# Altium integrated library ZMDI DC-DC Converter.IntLib: 18 symbols (part 1 of 2)
Pins are listed as number, name and electrical type; pins without a type are passive.

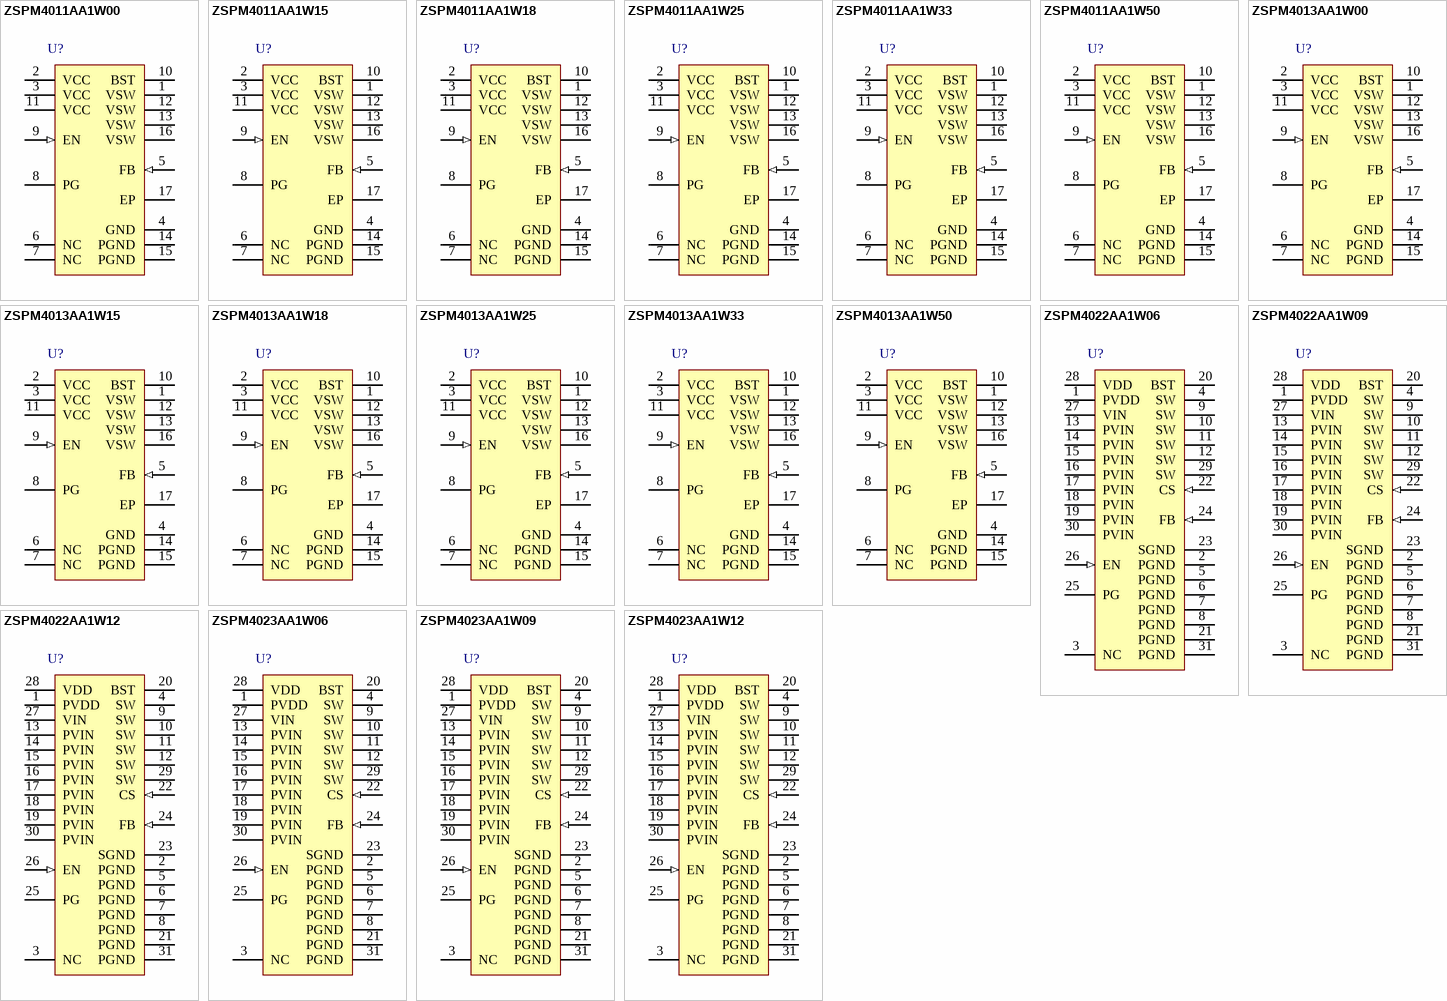
[diagram p0: symbols ZSPM4011AA1W00 to ZSPM4023AA1W12]

## ZSPM4011AA1W00
designator U?
High Efficiency 1 A Synchronous Buck Converter, 6 to 24 V Input, 0.9 to 5 V VDC, 1 A Iout, -40 to 125 degC, 16-Pin QFN, Reel, RoHS; Manufacturer: ZMDI; PartNumber: ZSPM4011AA1W00; Input Range (VDC): 6 to 24; Output (A): 1; Output (VDC): 0.9 to 5; DatasheetVersion: Rev. 1.03; PackageReference: QFN16; PackageDescription: 16-Pin Plastic Quad Flatpack, No Leads, 3 x 3 mm Body, 0.5 mm Pitch, 1.65 x 1.65 mm Exposed Pad; Supplier 1: Farnell; Supplier Part Number 1: 2115213; Supplier 2: Newark; Supplier Part Number 2: 05W5919; Supplier 3: Mouser; Supplier Part Number 3: 964-ZSPM4011AA1W00; Packing: Reel; RoHS: TRUE; Mounting Technology: Surface Mount; ComponentLink1Description: Manufacturer URL; ComponentLink1URL: http://www.zmdi.com/; ComponentLink2Description: Datasheet; ComponentLink2URL: http://zmdi.cdistore.com/datasheets/zmdi/ZSPM4011_Data_Sheet_rev_1_03.pdf; ComponentLink3Description: Package Specification; ComponentLink3URL: http://zmdi.cdistore.com/datasheets/zmdi/ZSPM4011_Data_Sheet_rev_1_03.pdf
footprint ZMDI-QFN16_N (QFN, 16-Leads, Body 3.1x3.1mm, Pitch 0.5mm, Thermal Pad 1.65x1.65mm, IPC Medium Density)
footprint ZMDI-QFN16_L (QFN, 16-Leads, Body 3.1x3.1mm, Pitch 0.5mm, Thermal Pad 1.65x1.65mm, IPC High Density)
footprint ZMDI-QFN16_M (QFN, 16-Leads, Body 3.1x3.1mm, Pitch 0.5mm, Thermal Pad 1.65x1.65mm, IPC Low Density)
pins: 1 VSW (power) "Connected to a 4.7uH (typical) inductor. Also connect to additional VSW pins 12, 13, and 16.", 2 VCC (power) "Input voltage. Also connect to additional VCC pins 3 and 11.", 3 VCC (power) "Input voltage. Also connect to additional VCC pins 2 and 11.", 4 GND (power) "Primary ground for the majority of the device except the low-side power FET.", 5 FB (in) "Regulator FB voltage. Connects to VOUT for fixed-mode and the output resistor divider for adjustable mode.", 6 NC "Not connected.", 7 NC "Not connected.", 8 PG (oc) "Open-drain output.", 9 EN (in), 10 BST "Bootstrap capacitor for the high-side FET gate driver. Connect a 22nF ceramic capacitor from BST pin to VSW pin.", 11 VCC (power) "Input voltage. Also connect to additional VCC pins 2 and 3.", 12 VSW (power) "Connected to 4.7uH (typical) inductor. Also connect to additional VSW pins 1, 13, and 16.", 13 VSW (power) "Connected to 4.7uH (typical) inductor. Also connect to additional VSW pins 1, 12, and 16.", 14 PGND (power) "GND supply for internal low-side FET/integrated diode. Also connect to additional PGND pin 15.", 15 PGND (power) "GND supply for internal low-side FET/integrated diode. Also connect to additional PGND pin 14.", 16 VSW (power) "Connected to 4.7uH (typical) inductor. Also connect to additional VSW pins 1, 12, and 13.", 17 EP

## ZSPM4011AA1W15
designator U?
High Efficiency 1 A Synchronous Buck Converter, 6 to 24 V Input, 1.5 V VDC, 1 A Iout, -40 to 125 degC, 16-Pin QFN, Reel, RoHS; Manufacturer: ZMDI; PartNumber: ZSPM4011AA1W15; Input Range (VDC): 6 to 24; Output (A): 1; Output (VDC): 1.5; DatasheetVersion: Rev. 1.03; PackageReference: QFN16; PackageDescription: 16-Pin Plastic Quad Flatpack, No Leads, 3 x 3 mm Body, 0.5 mm Pitch, 1.65 x 1.65 mm Exposed Pad; Supplier 1: Mouser; Supplier Part Number 1: 964-ZSPM4011AA1W15; Packing: Reel; RoHS: TRUE; Mounting Technology: Surface Mount; ComponentLink1Description: Manufacturer URL; ComponentLink1URL: http://www.zmdi.com/; ComponentLink2Description: Datasheet; ComponentLink2URL: http://zmdi.cdistore.com/datasheets/zmdi/ZSPM4011_Data_Sheet_rev_1_03.pdf; ComponentLink3Description: Package Specification; ComponentLink3URL: http://zmdi.cdistore.com/datasheets/zmdi/ZSPM4011_Data_Sheet_rev_1_03.pdf
footprint ZMDI-QFN16_N (QFN, 16-Leads, Body 3.1x3.1mm, Pitch 0.5mm, Thermal Pad 1.65x1.65mm, IPC Medium Density)
footprint ZMDI-QFN16_L (QFN, 16-Leads, Body 3.1x3.1mm, Pitch 0.5mm, Thermal Pad 1.65x1.65mm, IPC High Density)
footprint ZMDI-QFN16_M (QFN, 16-Leads, Body 3.1x3.1mm, Pitch 0.5mm, Thermal Pad 1.65x1.65mm, IPC Low Density)
pins: 1 VSW (power) "Connected to a 4.7uH (typical) inductor. Also connect to additional VSW pins 12, 13, and 16.", 2 VCC (power) "Input voltage. Also connect to additional VCC pins 3 and 11.", 3 VCC (power) "Input voltage. Also connect to additional VCC pins 2 and 11.", 4 GND (power) "Primary ground for the majority of the device except the low-side power FET.", 5 FB (in) "Regulator FB voltage. Connects to VOUT for fixed-mode and the output resistor divider for adjustable mode.", 6 NC "Not connected.", 7 NC "Not connected.", 8 PG (oc) "Open-drain output.", 9 EN (in), 10 BST "Bootstrap capacitor for the high-side FET gate driver. Connect a 22nF ceramic capacitor from BST pin to VSW pin.", 11 VCC (power) "Input voltage. Also connect to additional VCC pins 2 and 3.", 12 VSW (power) "Connected to 4.7uH (typical) inductor. Also connect to additional VSW pins 1, 13, and 16.", 13 VSW (power) "Connected to 4.7uH (typical) inductor. Also connect to additional VSW pins 1, 12, and 16.", 14 PGND (power) "GND supply for internal low-side FET/integrated diode. Also connect to additional PGND pin 15.", 15 PGND (power) "GND supply for internal low-side FET/integrated diode. Also connect to additional PGND pin 14.", 16 VSW (power) "Connected to 4.7uH (typical) inductor. Also connect to additional VSW pins 1, 12, and 13.", 17 EP

## ZSPM4011AA1W18
designator U?
High Efficiency 1 A Synchronous Buck Converter, 6 to 24 V Input, 1.8 V VDC, 1 A Iout, -40 to 125 degC, 16-Pin QFN, Reel, RoHS; Manufacturer: ZMDI; PartNumber: ZSPM4011AA1W18; Input Range (VDC): 6 to 24; Output (A): 1; Output (VDC): 1.8; DatasheetVersion: Rev. 1.03; PackageReference: QFN16; PackageDescription: 16-Pin Plastic Quad Flatpack, No Leads, 3 x 3 mm Body, 0.5 mm Pitch, 1.65 x 1.65 mm Exposed Pad; Supplier 1: Farnell; Supplier Part Number 1: 2115210; Supplier 2: Mouser; Supplier Part Number 2: 964-ZSPM4011AA1W18; Packing: Reel; RoHS: TRUE; Mounting Technology: Surface Mount; ComponentLink1Description: Manufacturer URL; ComponentLink1URL: http://www.zmdi.com/; ComponentLink2Description: Datasheet; ComponentLink2URL: http://zmdi.cdistore.com/datasheets/zmdi/ZSPM4011_Data_Sheet_rev_1_03.pdf; ComponentLink3Description: Package Specification; ComponentLink3URL: http://zmdi.cdistore.com/datasheets/zmdi/ZSPM4011_Data_Sheet_rev_1_03.pdf
footprint ZMDI-QFN16_N (QFN, 16-Leads, Body 3.1x3.1mm, Pitch 0.5mm, Thermal Pad 1.65x1.65mm, IPC Medium Density)
footprint ZMDI-QFN16_L (QFN, 16-Leads, Body 3.1x3.1mm, Pitch 0.5mm, Thermal Pad 1.65x1.65mm, IPC High Density)
footprint ZMDI-QFN16_M (QFN, 16-Leads, Body 3.1x3.1mm, Pitch 0.5mm, Thermal Pad 1.65x1.65mm, IPC Low Density)
pins: 1 VSW (power) "Connected to a 4.7uH (typical) inductor. Also connect to additional VSW pins 12, 13, and 16.", 2 VCC (power) "Input voltage. Also connect to additional VCC pins 3 and 11.", 3 VCC (power) "Input voltage. Also connect to additional VCC pins 2 and 11.", 4 GND (power) "Primary ground for the majority of the device except the low-side power FET.", 5 FB (in) "Regulator FB voltage. Connects to VOUT for fixed-mode and the output resistor divider for adjustable mode.", 6 NC "Not connected.", 7 NC "Not connected.", 8 PG (oc) "Open-drain output.", 9 EN (in), 10 BST "Bootstrap capacitor for the high-side FET gate driver. Connect a 22nF ceramic capacitor from BST pin to VSW pin.", 11 VCC (power) "Input voltage. Also connect to additional VCC pins 2 and 3.", 12 VSW (power) "Connected to 4.7uH (typical) inductor. Also connect to additional VSW pins 1, 13, and 16.", 13 VSW (power) "Connected to 4.7uH (typical) inductor. Also connect to additional VSW pins 1, 12, and 16.", 14 PGND (power) "GND supply for internal low-side FET/integrated diode. Also connect to additional PGND pin 15.", 15 PGND (power) "GND supply for internal low-side FET/integrated diode. Also connect to additional PGND pin 14.", 16 VSW (power) "Connected to 4.7uH (typical) inductor. Also connect to additional VSW pins 1, 12, and 13.", 17 EP

## ZSPM4011AA1W25
designator U?
High Efficiency 1 A Synchronous Buck Converter, 6 to 24 V Input, 2.5 V VDC, 1 A Iout, -40 to 125 degC,16-Pin QFN, Reel, RoHS; Manufacturer: ZMDI; PartNumber: ZSPM4011AA1W25; Input Range (VDC): 6 to 24; Output (A): 1; Output (VDC): 2.5; DatasheetVersion: Rev. 1.03; PackageReference: QFN16; PackageDescription: 16-Pin Plastic Quad Flatpack, No Leads, 3 x 3 mm Body, 0.5 mm Pitch, 1.65 x 1.65 mm Exposed Pad; Supplier 1: Mouser; Supplier Part Number 1: 964-ZSPM4011AA1W25; Packing: Reel; RoHS: TRUE; Mounting Technology: Surface Mount; ComponentLink1Description: Manufacturer URL; ComponentLink1URL: http://www.zmdi.com/; ComponentLink2Description: Datasheet; ComponentLink2URL: http://zmdi.cdistore.com/datasheets/zmdi/ZSPM4011_Data_Sheet_rev_1_03.pdf; ComponentLink3Description: Package Specification; ComponentLink3URL: http://zmdi.cdistore.com/datasheets/zmdi/ZSPM4011_Data_Sheet_rev_1_03.pdf
footprint ZMDI-QFN16_N (QFN, 16-Leads, Body 3.1x3.1mm, Pitch 0.5mm, Thermal Pad 1.65x1.65mm, IPC Medium Density)
footprint ZMDI-QFN16_L (QFN, 16-Leads, Body 3.1x3.1mm, Pitch 0.5mm, Thermal Pad 1.65x1.65mm, IPC High Density)
footprint ZMDI-QFN16_M (QFN, 16-Leads, Body 3.1x3.1mm, Pitch 0.5mm, Thermal Pad 1.65x1.65mm, IPC Low Density)
pins: 1 VSW (power) "Connected to a 4.7uH (typical) inductor. Also connect to additional VSW pins 12, 13, and 16.", 2 VCC (power) "Input voltage. Also connect to additional VCC pins 3 and 11.", 3 VCC (power) "Input voltage. Also connect to additional VCC pins 2 and 11.", 4 GND (power) "Primary ground for the majority of the device except the low-side power FET.", 5 FB (in) "Regulator FB voltage. Connects to VOUT for fixed-mode and the output resistor divider for adjustable mode.", 6 NC "Not connected.", 7 NC "Not connected.", 8 PG (oc) "Open-drain output.", 9 EN (in), 10 BST "Bootstrap capacitor for the high-side FET gate driver. Connect a 22nF ceramic capacitor from BST pin to VSW pin.", 11 VCC (power) "Input voltage. Also connect to additional VCC pins 2 and 3.", 12 VSW (power) "Connected to 4.7uH (typical) inductor. Also connect to additional VSW pins 1, 13, and 16.", 13 VSW (power) "Connected to 4.7uH (typical) inductor. Also connect to additional VSW pins 1, 12, and 16.", 14 PGND (power) "GND supply for internal low-side FET/integrated diode. Also connect to additional PGND pin 15.", 15 PGND (power) "GND supply for internal low-side FET/integrated diode. Also connect to additional PGND pin 14.", 16 VSW (power) "Connected to 4.7uH (typical) inductor. Also connect to additional VSW pins 1, 12, and 13.", 17 EP

## ZSPM4011AA1W33
designator U?
High Efficiency 1 A Synchronous Buck Converter, 6 to 24 V Input, 3.3 V VDC, 1 A Iout, -40 to 125 degC, 16-Pin QFN, Reel, RoHS; Manufacturer: ZMDI; PartNumber: ZSPM4011AA1W33; Input Range (VDC): 6 to 24; Output (A): 1; Output (VDC): 3.3; DatasheetVersion: Rev. 1.03; PackageReference: QFN16; PackageDescription: 16-Pin Plastic Quad Flatpack, No Leads, 3 x 3 mm Body, 0.5 mm Pitch, 1.65 x 1.65 mm Exposed Pad; Supplier 1: Farnell; Supplier Part Number 1: 2115211; Supplier 2: Mouser; Supplier Part Number 2: 964-ZSPM4011AA1W33; Packing: Reel; RoHS: TRUE; Mounting Technology: Surface Mount; ComponentLink1Description: Manufacturer URL; ComponentLink1URL: http://www.zmdi.com/; ComponentLink2Description: Datasheet; ComponentLink2URL: http://zmdi.cdistore.com/datasheets/zmdi/ZSPM4011_Data_Sheet_rev_1_03.pdf; ComponentLink3Description: Package Specification; ComponentLink3URL: http://zmdi.cdistore.com/datasheets/zmdi/ZSPM4011_Data_Sheet_rev_1_03.pdf
footprint ZMDI-QFN16_N (QFN, 16-Leads, Body 3.1x3.1mm, Pitch 0.5mm, Thermal Pad 1.65x1.65mm, IPC Medium Density)
footprint ZMDI-QFN16_L (QFN, 16-Leads, Body 3.1x3.1mm, Pitch 0.5mm, Thermal Pad 1.65x1.65mm, IPC High Density)
footprint ZMDI-QFN16_M (QFN, 16-Leads, Body 3.1x3.1mm, Pitch 0.5mm, Thermal Pad 1.65x1.65mm, IPC Low Density)
pins: 1 VSW (power) "Connected to a 4.7uH (typical) inductor. Also connect to additional VSW pins 12, 13, and 16.", 2 VCC (power) "Input voltage. Also connect to additional VCC pins 3 and 11.", 3 VCC (power) "Input voltage. Also connect to additional VCC pins 2 and 11.", 4 GND (power) "Primary ground for the majority of the device except the low-side power FET.", 5 FB (in) "Regulator FB voltage. Connects to VOUT for fixed-mode and the output resistor divider for adjustable mode.", 6 NC "Not connected.", 7 NC "Not connected.", 8 PG (oc) "Open-drain output.", 9 EN (in), 10 BST "Bootstrap capacitor for the high-side FET gate driver. Connect a 22nF ceramic capacitor from BST pin to VSW pin.", 11 VCC (power) "Input voltage. Also connect to additional VCC pins 2 and 3.", 12 VSW (power) "Connected to 4.7uH (typical) inductor. Also connect to additional VSW pins 1, 13, and 16.", 13 VSW (power) "Connected to 4.7uH (typical) inductor. Also connect to additional VSW pins 1, 12, and 16.", 14 PGND (power) "GND supply for internal low-side FET/integrated diode. Also connect to additional PGND pin 15.", 15 PGND (power) "GND supply for internal low-side FET/integrated diode. Also connect to additional PGND pin 14.", 16 VSW (power) "Connected to 4.7uH (typical) inductor. Also connect to additional VSW pins 1, 12, and 13.", 17 EP

## ZSPM4011AA1W50
designator U?
High Efficiency 1 A Synchronous Buck Converter, 6 to 24 V Input, 5 V VDC, 1 A Iout, -40 to 125 degC, 16-Pin QFN, Reel, RoHS; Manufacturer: ZMDI; PartNumber: ZSPM4011AA1W50; Input Range (VDC): 6 to 24; Output (A): 1; Output (VDC): 5; DatasheetVersion: Rev. 1.03; PackageReference: QFN16; PackageDescription: 16-Pin Plastic Quad Flatpack, No Leads, 3 x 3 mm Body, 0.5 mm Pitch, 1.65 x 1.65 mm Exposed Pad; Supplier 1: Farnell; Supplier Part Number 1: 2115212; Supplier 2: Mouser; Supplier Part Number 2: 964-ZSPM4011AA1W50; Packing: Reel; RoHS: TRUE; Mounting Technology: Surface Mount; ComponentLink1Description: Manufacturer URL; ComponentLink1URL: http://www.zmdi.com/; ComponentLink2Description: Datasheet; ComponentLink2URL: http://zmdi.cdistore.com/datasheets/zmdi/ZSPM4011_Data_Sheet_rev_1_03.pdf; ComponentLink3Description: Package Specification; ComponentLink3URL: http://zmdi.cdistore.com/datasheets/zmdi/ZSPM4011_Data_Sheet_rev_1_03.pdf
footprint ZMDI-QFN16_N (QFN, 16-Leads, Body 3.1x3.1mm, Pitch 0.5mm, Thermal Pad 1.65x1.65mm, IPC Medium Density)
footprint ZMDI-QFN16_L (QFN, 16-Leads, Body 3.1x3.1mm, Pitch 0.5mm, Thermal Pad 1.65x1.65mm, IPC High Density)
footprint ZMDI-QFN16_M (QFN, 16-Leads, Body 3.1x3.1mm, Pitch 0.5mm, Thermal Pad 1.65x1.65mm, IPC Low Density)
pins: 1 VSW (power) "Connected to a 4.7uH (typical) inductor. Also connect to additional VSW pins 12, 13, and 16.", 2 VCC (power) "Input voltage. Also connect to additional VCC pins 3 and 11.", 3 VCC (power) "Input voltage. Also connect to additional VCC pins 2 and 11.", 4 GND (power) "Primary ground for the majority of the device except the low-side power FET.", 5 FB (in) "Regulator FB voltage. Connects to VOUT for fixed-mode and the output resistor divider for adjustable mode.", 6 NC "Not connected.", 7 NC "Not connected.", 8 PG (oc) "Open-drain output.", 9 EN (in), 10 BST "Bootstrap capacitor for the high-side FET gate driver. Connect a 22nF ceramic capacitor from BST pin to VSW pin.", 11 VCC (power) "Input voltage. Also connect to additional VCC pins 2 and 3.", 12 VSW (power) "Connected to 4.7uH (typical) inductor. Also connect to additional VSW pins 1, 13, and 16.", 13 VSW (power) "Connected to 4.7uH (typical) inductor. Also connect to additional VSW pins 1, 12, and 16.", 14 PGND (power) "GND supply for internal low-side FET/integrated diode. Also connect to additional PGND pin 15.", 15 PGND (power) "GND supply for internal low-side FET/integrated diode. Also connect to additional PGND pin 14.", 16 VSW (power) "Connected to 4.7uH (typical) inductor. Also connect to additional VSW pins 1, 12, and 13.", 17 EP

## ZSPM4013AA1W00
designator U?
High Efficiency 3 A Synchronous Buck Converter, 6 to 18 V Input, 0.9 to 5 V VDC, 3 A Iout, -40 to 125 degC, 16-Pin QFN, Reel, RoHS; Manufacturer: ZMDI; PartNumber: ZSPM4013AA1W00; Input Range (VDC): 6 to 18; Output (A): 3; Output (VDC): 0.9 to 5; DatasheetVersion: Rev. 1.10; PackageReference: QFN16; PackageDescription: 16-Pin Plastic Quad Flatpack, No Leads, 3 x 3 mm Body, 0.5 mm Pitch, 1.65 x 1.65 mm Exposed Pad; Supplier 1: Farnell; Supplier Part Number 1: 2115223; Supplier 2: Newark; Supplier Part Number 2: 05W5929; Supplier 3: Mouser; Supplier Part Number 3: 964-ZSPM4013AA1W00; Packing: Reel; RoHS: TRUE; Mounting Technology: Surface Mount; ComponentLink1Description: Manufacturer URL; ComponentLink1URL: http://www.zmdi.com/; ComponentLink2Description: Datasheet; ComponentLink2URL: http://zmdi.cdistore.com/datasheets/zmdi/ZSPM4013_Data_Sheet_rev_1_10.pdf; ComponentLink3Description: Package Specification; ComponentLink3URL: http://zmdi.cdistore.com/datasheets/zmdi/ZSPM4011_Data_Sheet_rev_1_03.pdf
footprint ZMDI-QFN16_N (QFN, 16-Leads, Body 3.1x3.1mm, Pitch 0.5mm, Thermal Pad 1.65x1.65mm, IPC Medium Density)
footprint ZMDI-QFN16_L (QFN, 16-Leads, Body 3.1x3.1mm, Pitch 0.5mm, Thermal Pad 1.65x1.65mm, IPC High Density)
footprint ZMDI-QFN16_M (QFN, 16-Leads, Body 3.1x3.1mm, Pitch 0.5mm, Thermal Pad 1.65x1.65mm, IPC Low Density)
pins: 1 VSW (power) "Connected to a 4.7uH (typical) inductor. Also connect to additional VSW pins 12, 13, and 16.", 2 VCC (power) "Input voltage. Also connect to additional VCC pins 3 and 11.", 3 VCC (power) "Input voltage. Also connect to additional VCC pins 2 and 11.", 4 GND (power) "Primary ground for the majority of the device except the low-side power FET.", 5 FB (in) "Regulator FB voltage. Connects to VOUT for fixed-mode and the output resistor divider for adjustable mode.", 6 NC "Not connected.", 7 NC "Not connected.", 8 PG (oc) "Open-drain output.", 9 EN (in), 10 BST "Bootstrap capacitor for the high-side FET gate driver. Connect a 22nF ceramic capacitor from BST pin to VSW pin.", 11 VCC (power) "Input voltage. Also connect to additional VCC pins 2 and 3.", 12 VSW (power) "Connected to 4.7uH (typical) inductor. Also connect to additional VSW pins 1, 13, and 16.", 13 VSW (power) "Connected to 4.7uH (typical) inductor. Also connect to additional VSW pins 1, 12, and 16.", 14 PGND (power) "GND supply for internal low-side FET/integrated diode. Also connect to additional PGND pin 15.", 15 PGND (power) "GND supply for internal low-side FET/integrated diode. Also connect to additional PGND pin 14.", 16 VSW (power) "Connected to 4.7uH (typical) inductor. Also connect to additional VSW pins 1, 12, and 13.", 17 EP

## ZSPM4013AA1W15
designator U?
High Efficiency 3 A Synchronous Buck Converter, 6 to 18 V Input, 1.5 V VDC, 3 A Iout, -40 to 125 degC, 16-Pin QFN, Reel, RoHS; Manufacturer: ZMDI; PartNumber: ZSPM4013AA1W15; Input Range (VDC): 6 to 18; Output (A): 3; Output (VDC): 1.5; DatasheetVersion: Rev. 1.10; PackageReference: QFN16; PackageDescription: 16-Pin Plastic Quad Flatpack, No Leads, 3 x 3 mm Body, 0.5 mm Pitch, 1.65 x 1.65 mm Exposed Pad; Supplier 1: Mouser; Supplier Part Number 1: 964-ZSPM4013AA1W15; Packing: Reel; RoHS: TRUE; Mounting Technology: Surface Mount; ComponentLink1Description: Manufacturer URL; ComponentLink1URL: http://www.zmdi.com/; ComponentLink2Description: Datasheet; ComponentLink2URL: http://zmdi.cdistore.com/datasheets/zmdi/ZSPM4013_Data_Sheet_rev_1_10.pdf; ComponentLink3Description: Package Specification; ComponentLink3URL: http://zmdi.cdistore.com/datasheets/zmdi/ZSPM4011_Data_Sheet_rev_1_03.pdf
footprint ZMDI-QFN16_N (QFN, 16-Leads, Body 3.1x3.1mm, Pitch 0.5mm, Thermal Pad 1.65x1.65mm, IPC Medium Density)
footprint ZMDI-QFN16_L (QFN, 16-Leads, Body 3.1x3.1mm, Pitch 0.5mm, Thermal Pad 1.65x1.65mm, IPC High Density)
footprint ZMDI-QFN16_M (QFN, 16-Leads, Body 3.1x3.1mm, Pitch 0.5mm, Thermal Pad 1.65x1.65mm, IPC Low Density)
pins: 1 VSW (power) "Connected to a 4.7uH (typical) inductor. Also connect to additional VSW pins 12, 13, and 16.", 2 VCC (power) "Input voltage. Also connect to additional VCC pins 3 and 11.", 3 VCC (power) "Input voltage. Also connect to additional VCC pins 2 and 11.", 4 GND (power) "Primary ground for the majority of the device except the low-side power FET.", 5 FB (in) "Regulator FB voltage. Connects to VOUT for fixed-mode and the output resistor divider for adjustable mode.", 6 NC "Not connected.", 7 NC "Not connected.", 8 PG (oc) "Open-drain output.", 9 EN (in), 10 BST "Bootstrap capacitor for the high-side FET gate driver. Connect a 22nF ceramic capacitor from BST pin to VSW pin.", 11 VCC (power) "Input voltage. Also connect to additional VCC pins 2 and 3.", 12 VSW (power) "Connected to 4.7uH (typical) inductor. Also connect to additional VSW pins 1, 13, and 16.", 13 VSW (power) "Connected to 4.7uH (typical) inductor. Also connect to additional VSW pins 1, 12, and 16.", 14 PGND (power) "GND supply for internal low-side FET/integrated diode. Also connect to additional PGND pin 15.", 15 PGND (power) "GND supply for internal low-side FET/integrated diode. Also connect to additional PGND pin 14.", 16 VSW (power) "Connected to 4.7uH (typical) inductor. Also connect to additional VSW pins 1, 12, and 13.", 17 EP

## ZSPM4013AA1W18
designator U?
High Efficiency 3 A Synchronous Buck Converter, 6 to 18 V Input, 1.8 V VDC, 3 A Iout, -40 to 125 degC, 16-Pin QFN, Reel, RoHS; Manufacturer: ZMDI; PartNumber: ZSPM4013AA1W18; Input Range (VDC): 6 to 18; Output (A): 3; Output (VDC): 1.8; DatasheetVersion: Rev. 1.10; PackageReference: QFN16; PackageDescription: 16-Pin Plastic Quad Flatpack, No Leads, 3 x 3 mm Body, 0.5 mm Pitch, 1.65 x 1.65 mm Exposed Pad; Supplier 1: Farnell; Supplier Part Number 1: 2115218; Supplier 2: Newark; Supplier Part Number 2: 05W5930; Supplier 3: Mouser; Supplier Part Number 3: 964-ZSPM4013AA1W18; Packing: Reel; RoHS: TRUE; Mounting Technology: Surface Mount; ComponentLink1Description: Manufacturer URL; ComponentLink1URL: http://www.zmdi.com/; ComponentLink2Description: Datasheet; ComponentLink2URL: http://zmdi.cdistore.com/datasheets/zmdi/ZSPM4013_Data_Sheet_rev_1_10.pdf; ComponentLink3Description: Package Specification; ComponentLink3URL: http://zmdi.cdistore.com/datasheets/zmdi/ZSPM4011_Data_Sheet_rev_1_03.pdf
footprint ZMDI-QFN16_N (QFN, 16-Leads, Body 3.1x3.1mm, Pitch 0.5mm, Thermal Pad 1.65x1.65mm, IPC Medium Density)
footprint ZMDI-QFN16_L (QFN, 16-Leads, Body 3.1x3.1mm, Pitch 0.5mm, Thermal Pad 1.65x1.65mm, IPC High Density)
footprint ZMDI-QFN16_M (QFN, 16-Leads, Body 3.1x3.1mm, Pitch 0.5mm, Thermal Pad 1.65x1.65mm, IPC Low Density)
pins: 1 VSW (power) "Connected to a 4.7uH (typical) inductor. Also connect to additional VSW pins 12, 13, and 16.", 2 VCC (power) "Input voltage. Also connect to additional VCC pins 3 and 11.", 3 VCC (power) "Input voltage. Also connect to additional VCC pins 2 and 11.", 4 GND (power) "Primary ground for the majority of the device except the low-side power FET.", 5 FB (in) "Regulator FB voltage. Connects to VOUT for fixed-mode and the output resistor divider for adjustable mode.", 6 NC "Not connected.", 7 NC "Not connected.", 8 PG (oc) "Open-drain output.", 9 EN (in), 10 BST "Bootstrap capacitor for the high-side FET gate driver. Connect a 22nF ceramic capacitor from BST pin to VSW pin.", 11 VCC (power) "Input voltage. Also connect to additional VCC pins 2 and 3.", 12 VSW (power) "Connected to 4.7uH (typical) inductor. Also connect to additional VSW pins 1, 13, and 16.", 13 VSW (power) "Connected to 4.7uH (typical) inductor. Also connect to additional VSW pins 1, 12, and 16.", 14 PGND (power) "GND supply for internal low-side FET/integrated diode. Also connect to additional PGND pin 15.", 15 PGND (power) "GND supply for internal low-side FET/integrated diode. Also connect to additional PGND pin 14.", 16 VSW (power) "Connected to 4.7uH (typical) inductor. Also connect to additional VSW pins 1, 12, and 13.", 17 EP

## ZSPM4013AA1W25
designator U?
High Efficiency 3 A Synchronous Buck Converter, 6 to 18 V Input, 2.5 V VDC, 3 A Iout, -40 to 125 degC, 16-Pin QFN, Reel, RoHS; Manufacturer: ZMDI; PartNumber: ZSPM4013AA1W25; Input Range (VDC): 6 to 18; Output (A): 3; Output (VDC): 2.5; DatasheetVersion: Rev. 1.10; PackageReference: QFN16; PackageDescription: 16-Pin Plastic Quad Flatpack, No Leads, 3 x 3 mm Body, 0.5 mm Pitch, 1.65 x 1.65 mm Exposed Pad; Supplier 1: Mouser; Supplier Part Number 1: 964-ZSPM4013AA1W25; Packing: Reel; RoHS: TRUE; Mounting Technology: Surface Mount; ComponentLink1Description: Manufacturer URL; ComponentLink1URL: http://www.zmdi.com/; ComponentLink2Description: Datasheet; ComponentLink2URL: http://zmdi.cdistore.com/datasheets/zmdi/ZSPM4013_Data_Sheet_rev_1_10.pdf; ComponentLink3Description: Package Specification; ComponentLink3URL: http://zmdi.cdistore.com/datasheets/zmdi/ZSPM4011_Data_Sheet_rev_1_03.pdf
footprint ZMDI-QFN16_N (QFN, 16-Leads, Body 3.1x3.1mm, Pitch 0.5mm, Thermal Pad 1.65x1.65mm, IPC Medium Density)
footprint ZMDI-QFN16_L (QFN, 16-Leads, Body 3.1x3.1mm, Pitch 0.5mm, Thermal Pad 1.65x1.65mm, IPC High Density)
footprint ZMDI-QFN16_M (QFN, 16-Leads, Body 3.1x3.1mm, Pitch 0.5mm, Thermal Pad 1.65x1.65mm, IPC Low Density)
pins: 1 VSW (power) "Connected to a 4.7uH (typical) inductor. Also connect to additional VSW pins 12, 13, and 16.", 2 VCC (power) "Input voltage. Also connect to additional VCC pins 3 and 11.", 3 VCC (power) "Input voltage. Also connect to additional VCC pins 2 and 11.", 4 GND (power) "Primary ground for the majority of the device except the low-side power FET.", 5 FB (in) "Regulator FB voltage. Connects to VOUT for fixed-mode and the output resistor divider for adjustable mode.", 6 NC "Not connected.", 7 NC "Not connected.", 8 PG (oc) "Open-drain output.", 9 EN (in), 10 BST "Bootstrap capacitor for the high-side FET gate driver. Connect a 22nF ceramic capacitor from BST pin to VSW pin.", 11 VCC (power) "Input voltage. Also connect to additional VCC pins 2 and 3.", 12 VSW (power) "Connected to 4.7uH (typical) inductor. Also connect to additional VSW pins 1, 13, and 16.", 13 VSW (power) "Connected to 4.7uH (typical) inductor. Also connect to additional VSW pins 1, 12, and 16.", 14 PGND (power) "GND supply for internal low-side FET/integrated diode. Also connect to additional PGND pin 15.", 15 PGND (power) "GND supply for internal low-side FET/integrated diode. Also connect to additional PGND pin 14.", 16 VSW (power) "Connected to 4.7uH (typical) inductor. Also connect to additional VSW pins 1, 12, and 13.", 17 EP

## ZSPM4013AA1W33
designator U?
High Efficiency 3 A Synchronous Buck Converter, 6 to 18 V Input, 3.3 V VDC, 3 A Iout, -40 to 125 degC, 16-Pin QFN, Reel, RoHS; Manufacturer: ZMDI; PartNumber: ZSPM4013AA1W33; Input Range (VDC): 6 to 18; Output (A): 3; Output (VDC): 3.3; DatasheetVersion: Rev. 1.10; PackageReference: QFN16; PackageDescription: 16-Pin Plastic Quad Flatpack, No Leads, 3 x 3 mm Body, 0.5 mm Pitch, 1.65 x 1.65 mm Exposed Pad; Supplier 1: Farnell; Supplier Part Number 1: 2115221; Supplier 2: Newark; Supplier Part Number 2: 05W5931; Supplier 3: Mouser; Supplier Part Number 3: 964-ZSPM4013AA1W33; Packing: Reel; RoHS: TRUE; Mounting Technology: Surface Mount; ComponentLink1Description: Manufacturer URL; ComponentLink1URL: http://www.zmdi.com/; ComponentLink2Description: Datasheet; ComponentLink2URL: http://zmdi.cdistore.com/datasheets/zmdi/ZSPM4013_Data_Sheet_rev_1_10.pdf; ComponentLink3Description: Package Specification; ComponentLink3URL: http://zmdi.cdistore.com/datasheets/zmdi/ZSPM4011_Data_Sheet_rev_1_03.pdf
footprint ZMDI-QFN16_N (QFN, 16-Leads, Body 3.1x3.1mm, Pitch 0.5mm, Thermal Pad 1.65x1.65mm, IPC Medium Density)
footprint ZMDI-QFN16_L (QFN, 16-Leads, Body 3.1x3.1mm, Pitch 0.5mm, Thermal Pad 1.65x1.65mm, IPC High Density)
footprint ZMDI-QFN16_M (QFN, 16-Leads, Body 3.1x3.1mm, Pitch 0.5mm, Thermal Pad 1.65x1.65mm, IPC Low Density)
pins: 1 VSW (power) "Connected to a 4.7uH (typical) inductor. Also connect to additional VSW pins 12, 13, and 16.", 2 VCC (power) "Input voltage. Also connect to additional VCC pins 3 and 11.", 3 VCC (power) "Input voltage. Also connect to additional VCC pins 2 and 11.", 4 GND (power) "Primary ground for the majority of the device except the low-side power FET.", 5 FB (in) "Regulator FB voltage. Connects to VOUT for fixed-mode and the output resistor divider for adjustable mode.", 6 NC "Not connected.", 7 NC "Not connected.", 8 PG (oc) "Open-drain output.", 9 EN (in), 10 BST "Bootstrap capacitor for the high-side FET gate driver. Connect a 22nF ceramic capacitor from BST pin to VSW pin.", 11 VCC (power) "Input voltage. Also connect to additional VCC pins 2 and 3.", 12 VSW (power) "Connected to 4.7uH (typical) inductor. Also connect to additional VSW pins 1, 13, and 16.", 13 VSW (power) "Connected to 4.7uH (typical) inductor. Also connect to additional VSW pins 1, 12, and 16.", 14 PGND (power) "GND supply for internal low-side FET/integrated diode. Also connect to additional PGND pin 15.", 15 PGND (power) "GND supply for internal low-side FET/integrated diode. Also connect to additional PGND pin 14.", 16 VSW (power) "Connected to 4.7uH (typical) inductor. Also connect to additional VSW pins 1, 12, and 13.", 17 EP

## ZSPM4013AA1W50
designator U?
High Efficiency 3 A Synchronous Buck Converter, 6 to 18 V Input, 5 V VDC, 3 A Iout, -40 to 125 degC, 16-Pin QFN, Reel, RoHS; Manufacturer: ZMDI; PartNumber: ZSPM4013AA1W50; Input Range (VDC): 6 to 18; Output (A): 3; Output (VDC): 5; DatasheetVersion: Rev. 1.10; PackageReference: QFN16; PackageDescription: 16-Pin Plastic Quad Flatpack, No Leads, 3 x 3 mm Body, 0.5 mm Pitch, 1.65 x 1.65 mm Exposed Pad; Supplier 1: Farnell; Supplier Part Number 1: 2115222; Supplier 2: Newark; Supplier Part Number 2: 05W5932; Supplier 3: Mouser; Supplier Part Number 3: 964-ZSPM4013AA1W50; Packing: Reel; RoHS: TRUE; Mounting Technology: Surface Mount; ComponentLink1Description: Manufacturer URL; ComponentLink1URL: http://www.zmdi.com/; ComponentLink2Description: Datasheet; ComponentLink2URL: http://zmdi.cdistore.com/datasheets/zmdi/ZSPM4013_Data_Sheet_rev_1_10.pdf; ComponentLink3Description: Package Specification; ComponentLink3URL: http://zmdi.cdistore.com/datasheets/zmdi/ZSPM4011_Data_Sheet_rev_1_03.pdf
footprint ZMDI-QFN16_N (QFN, 16-Leads, Body 3.1x3.1mm, Pitch 0.5mm, Thermal Pad 1.65x1.65mm, IPC Medium Density)
footprint ZMDI-QFN16_L (QFN, 16-Leads, Body 3.1x3.1mm, Pitch 0.5mm, Thermal Pad 1.65x1.65mm, IPC High Density)
footprint ZMDI-QFN16_M (QFN, 16-Leads, Body 3.1x3.1mm, Pitch 0.5mm, Thermal Pad 1.65x1.65mm, IPC Low Density)
pins: 1 VSW (power) "Connected to a 4.7uH (typical) inductor. Also connect to additional VSW pins 12, 13, and 16.", 2 VCC (power) "Input voltage. Also connect to additional VCC pins 3 and 11.", 3 VCC (power) "Input voltage. Also connect to additional VCC pins 2 and 11.", 4 GND (power) "Primary ground for the majority of the device except the low-side power FET.", 5 FB (in) "Regulator FB voltage. Connects to VOUT for fixed-mode and the output resistor divider for adjustable mode.", 6 NC "Not connected.", 7 NC "Not connected.", 8 PG (oc) "Open-drain output.", 9 EN (in), 10 BST "Bootstrap capacitor for the high-side FET gate driver. Connect a 22nF ceramic capacitor from BST pin to VSW pin.", 11 VCC (power) "Input voltage. Also connect to additional VCC pins 2 and 3.", 12 VSW (power) "Connected to 4.7uH (typical) inductor. Also connect to additional VSW pins 1, 13, and 16.", 13 VSW (power) "Connected to 4.7uH (typical) inductor. Also connect to additional VSW pins 1, 12, and 16.", 14 PGND (power) "GND supply for internal low-side FET/integrated diode. Also connect to additional PGND pin 15.", 15 PGND (power) "GND supply for internal low-side FET/integrated diode. Also connect to additional PGND pin 14.", 16 VSW (power) "Connected to 4.7uH (typical) inductor. Also connect to additional VSW pins 1, 12, and 13.", 17 EP

## ZSPM4022AA1W06
designator U?
12 V / 6 A Synchronous DC / DC Buck Regulator, 4.5 to 19 V Input, 0.8 to 5.5 V VDC, 6 A Iout, -40 to 125 degC, 28-Pin QFN, Reel, RoHS; Manufacturer: ZMDI; PartNumber: ZSPM4022AA1W06; Output (A): 6; DatasheetVersion: Rev. 1.00; PackageReference: QFN28; PackageDescription: 28-Pin Plastic Quad Flatpack, No Lead, 5 x 6 mm Body, 0.65 mm Pitch; Supplier 1: Mouser; Supplier Part Number 1: 964-ZSPM4022-06; Input Range (VDC): 4.5 to 19; Output (VDC): 0.8 to 5.5; Packing: Reel; RoHS: TRUE; Mounting Technology: Surface Mount; ComponentLink1Description: Manufacturer URL; ComponentLink1URL: http://www.zmdi.com/; ComponentLink2Description: Datasheet; ComponentLink2URL: http://www.zmdi.com/sites/default/files/ZSPM4022-06_Data_Sheet_Rev1_00_2013-08-29_0.pdf; ComponentLink3Description: Package Specification; ComponentLink3URL: http://www.zmdi.com/sites/default/files/ZSPM4022-06_Data_Sheet_Rev1_00_2013-08-29_0.pdf
footprint ZMDI-QFN28_V (QFN, 28-Leads, Body 5x6mm, Pitch 0.65mm)
pins: 1 PVDD (power), 2 PGND (power), 3 NC "No connection", 4 SW (power) "Switch node output. This is the internal connection for the high-side MOSFET source and low-side MOSFET drain. Due to the high-speed switching on this pin, the SW pin should be routed away from sensitive nodes.", 5 PGND (power), 6 PGND (power), 7 PGND (power), 8 PGND (power), 9 SW (power) "Switch node output. This is the internal connection for the high-side MOSFET source and low-side MOSFET drain. Due to the high-speed switching on this pin, the SW pin should be routed away from sensitive nodes.", 10 SW (power) "Switch node output. This is the internal connection for the high-side MOSFET source and low-side MOSFET drain. Due to the high-speed switching on this pin, the SW pin should be routed away from sensitive nodes.", 11 SW (power) "Switch node output. This is the internal connection for the high-side MOSFET source and low-side MOSFET drain. Due to the high-speed switching on this pin, the SW pin should be routed away from sensitive nodes.", 12 SW (power) "Switch node output. This is the internal connection for the high-side MOSFET source and low-side MOSFET drain. Due to the high-speed switching on this pin, the SW pin should be routed away from sensitive nodes.", 13 PVIN (power) "High-side N-channel internal MOSFET drain connection input. The PVIN operating voltage range is from 4.5V to 28V. Input capacitors between the PVIN pins and the power ground (PGND) are required, and these connections must be (See Datasheet)", 14 PVIN (power) "High-side N-channel internal MOSFET drain connection input. The PVIN operating voltage range is from 4.5V to 28V. Input capacitors between the PVIN pins and the power ground (PGND) are required, and these connections must be (See Datasheet)", 15 PVIN (power) "High-side N-channel internal MOSFET drain connection input. The PVIN operating voltage range is from 4.5V to 28V. Input capacitors between the PVIN pins and the power ground (PGND) are required, and these connections must be (See Datasheet)", 16 PVIN (power) "High-side N-channel internal MOSFET drain connection input. The PVIN operating voltage range is from 4.5V to 28V. Input capacitors between the PVIN pins and the power ground (PGND) are required, and these connections must be (See Datasheet)", 17 PVIN (power) "High-side N-channel internal MOSFET drain connection input. The PVIN operating voltage range is from 4.5V to 28V. Input capacitors between the PVIN pins and the power ground (PGND) are required, and these connections must be (See Datasheet)", 18 PVIN (power) "High-side N-channel internal MOSFET drain connection input. The PVIN operating voltage range is from 4.5V to 28V. Input capacitors between the PVIN pins and the power ground (PGND) are required, and these connections must be (See Datasheet)", 19 PVIN (power) "High-side N-channel internal MOSFET drain connection input. The PVIN operating voltage range is from 4.5V to 28V. Input capacitors between the PVIN pins and the power ground (PGND) are required, and these connections must be (See Datasheet)", 20 BST "Boost output. This is the bootstrapped voltage to the high-side N-channel MOSFET driver. A Schottky diode is connected between the PVDD pin and the BST pin. A boost capacitor of 0.1uF is connected between the BST pin and the (See Datasheet)", 21 PGND (power), 22 CS (in), 23 SGND (power) "Signal ground. SGND must be connected directly to the ground planes. Do not route the SGND pin to the PGND pad on the top layer (see section 5 for details).", 24 FB (in) "Feedback input. This is the input to the transconductance amplifier of the control loop. The FB pin is regulated to 0.8V. A resistor divider connecting the feedback to the output is used to adjust the desired output voltage.", 25 PG (oc) "Power good output (open drain). The PG pin is externally tied to VDD through a 10kohm pull-up resistor. A high output is asserted when VOUT >  92% of nominal.", 26 EN (in), 27 VIN (power) "Power supply voltage input. This pin requires a bypass capacitor to PGND.", 28 VDD (power), 29 SW (power) "Switch node output. This is the internal connection for the high-side MOSFET source and low-side MOSFET drain. Due to the high-speed switching on this pin, the SW pin should be routed away from sensitive nodes.", 30 PVIN (power) "High-side N-channel internal MOSFET drain connection input. The PVIN operating voltage range is from 4.5V to 28V. Input capacitors between the PVIN pins and the power ground (PGND) are required, and these connections must be (See Datasheet)", 31 PGND (power)

## ZSPM4022AA1W09
designator U?
12 V / 9 A Synchronous DC / DC Buck Regulator, 4.5 to 19 V Input, 0.8 to 5.5 V VDC, 9 A Iout, -40 to 125 degC, 28-Pin QFN, Reel, RoHS; Manufacturer: ZMDI; PartNumber: ZSPM4022AA1W09; Output (A): 9; DatasheetVersion: Rev. 1.00; PackageReference: QFN28; PackageDescription: 28-Pin Plastic Quad Flatpack, No Lead, 5 x 6 mm Body, 0.65 mm Pitch; Supplier 1: Mouser; Supplier Part Number 1: 964-ZSPM4022-09; Input Range (VDC): 4.5 to 19; Output (VDC): 0.8 to 5.5; Packing: Reel; RoHS: TRUE; Mounting Technology: Surface Mount; ComponentLink1Description: Manufacturer URL; ComponentLink1URL: http://www.zmdi.com/; ComponentLink2Description: Datasheet; ComponentLink2URL: http://www.zmdi.com/sites/default/files/ZSPM4022-09_Data_Sheet_Rev1_00_2013-09-19_0.pdf; ComponentLink3Description: Package Specification; ComponentLink3URL: http://www.zmdi.com/sites/default/files/ZSPM4022-06_Data_Sheet_Rev1_00_2013-08-29_0.pdf
footprint ZMDI-QFN28_V (QFN, 28-Leads, Body 5x6mm, Pitch 0.65mm)
pins: 1 PVDD (power), 2 PGND (power), 3 NC "No connection", 4 SW (power) "Switch node output. This is the internal connection for the high-side MOSFET source and low-side MOSFET drain. Due to the high-speed switching on this pin, the SW pin should be routed away from sensitive nodes.", 5 PGND (power), 6 PGND (power), 7 PGND (power), 8 PGND (power), 9 SW (power) "Switch node output. This is the internal connection for the high-side MOSFET source and low-side MOSFET drain. Due to the high-speed switching on this pin, the SW pin should be routed away from sensitive nodes.", 10 SW (power) "Switch node output. This is the internal connection for the high-side MOSFET source and low-side MOSFET drain. Due to the high-speed switching on this pin, the SW pin should be routed away from sensitive nodes.", 11 SW (power) "Switch node output. This is the internal connection for the high-side MOSFET source and low-side MOSFET drain. Due to the high-speed switching on this pin, the SW pin should be routed away from sensitive nodes.", 12 SW (power) "Switch node output. This is the internal connection for the high-side MOSFET source and low-side MOSFET drain. Due to the high-speed switching on this pin, the SW pin should be routed away from sensitive nodes.", 13 PVIN (power) "High-side N-channel internal MOSFET drain connection input. The PVIN operating voltage range is from 4.5V to 28V. Input capacitors between the PVIN pins and the power ground (PGND) are required, and these connections must be (See Datasheet)", 14 PVIN (power) "High-side N-channel internal MOSFET drain connection input. The PVIN operating voltage range is from 4.5V to 28V. Input capacitors between the PVIN pins and the power ground (PGND) are required, and these connections must be (See Datasheet)", 15 PVIN (power) "High-side N-channel internal MOSFET drain connection input. The PVIN operating voltage range is from 4.5V to 28V. Input capacitors between the PVIN pins and the power ground (PGND) are required, and these connections must be (See Datasheet)", 16 PVIN (power) "High-side N-channel internal MOSFET drain connection input. The PVIN operating voltage range is from 4.5V to 28V. Input capacitors between the PVIN pins and the power ground (PGND) are required, and these connections must be (See Datasheet)", 17 PVIN (power) "High-side N-channel internal MOSFET drain connection input. The PVIN operating voltage range is from 4.5V to 28V. Input capacitors between the PVIN pins and the power ground (PGND) are required, and these connections must be (See Datasheet)", 18 PVIN (power) "High-side N-channel internal MOSFET drain connection input. The PVIN operating voltage range is from 4.5V to 28V. Input capacitors between the PVIN pins and the power ground (PGND) are required, and these connections must be (See Datasheet)", 19 PVIN (power) "High-side N-channel internal MOSFET drain connection input. The PVIN operating voltage range is from 4.5V to 28V. Input capacitors between the PVIN pins and the power ground (PGND) are required, and these connections must be (See Datasheet)", 20 BST "Boost output. This is the bootstrapped voltage to the high-side N-channel MOSFET driver. A Schottky diode is connected between the PVDD pin and the BST pin. A boost capacitor of 0.1uF is connected between the BST pin and the (See Datasheet)", 21 PGND (power), 22 CS (in), 23 SGND (power) "Signal ground. SGND must be connected directly to the ground planes. Do not route the SGND pin to the PGND pad on the top layer (see section 5 for details).", 24 FB (in) "Feedback input. This is the input to the transconductance amplifier of the control loop. The FB pin is regulated to 0.8V. A resistor divider connecting the feedback to the output is used to adjust the desired output voltage.", 25 PG (oc) "Power good output (open drain). The PG pin is externally tied to VDD through a 10kohm pull-up resistor. A high output is asserted when VOUT >  92% of nominal.", 26 EN (in), 27 VIN (power) "Power supply voltage input. This pin requires a bypass capacitor to PGND.", 28 VDD (power), 29 SW (power) "Switch node output. This is the internal connection for the high-side MOSFET source and low-side MOSFET drain. Due to the high-speed switching on this pin, the SW pin should be routed away from sensitive nodes.", 30 PVIN (power) "High-side N-channel internal MOSFET drain connection input. The PVIN operating voltage range is from 4.5V to 28V. Input capacitors between the PVIN pins and the power ground (PGND) are required, and these connections must be (See Datasheet)", 31 PGND (power)

## ZSPM4022AA1W12
designator U?
12 V / 12 A Synchronous DC / DC Buck Regulator, 4.5 to 19 V Input, 0.8 to 5.5 V VDC, 12 A Iout, -40 to 125 degC, 28-Pin QFN, Reel, RoHS; Manufacturer: ZMDI; PartNumber: ZSPM4022AA1W12; Output (A): 12; DatasheetVersion: Rev. 1.00; PackageReference: QFN28; PackageDescription: 28-Pin Plastic Quad Flatpack, No Lead, 5 x 6 mm Body, 0.65 mm Pitch; Supplier 1: Mouser; Supplier Part Number 1: 964-ZSPM4022-12; Input Range (VDC): 4.5 to 19; Output (VDC): 0.8 to 5.5; Packing: Reel; RoHS: TRUE; Mounting Technology: Surface Mount; ComponentLink1Description: Manufacturer URL; ComponentLink1URL: http://www.zmdi.com/; ComponentLink2Description: Datasheet; ComponentLink2URL: http://www.zmdi.com/sites/default/files/ZSPM4022-12_Data_Sheet_Rev1_00_2013-09-17_0.pdf; ComponentLink3Description: Package Specification; ComponentLink3URL: http://www.zmdi.com/sites/default/files/ZSPM4022-06_Data_Sheet_Rev1_00_2013-08-29_0.pdf
footprint ZMDI-QFN28_V (QFN, 28-Leads, Body 5x6mm, Pitch 0.65mm)
pins: 1 PVDD (power), 2 PGND (power), 3 NC "No connection", 4 SW (power) "Switch node output. This is the internal connection for the high-side MOSFET source and low-side MOSFET drain. Due to the high-speed switching on this pin, the SW pin should be routed away from sensitive nodes.", 5 PGND (power), 6 PGND (power), 7 PGND (power), 8 PGND (power), 9 SW (power) "Switch node output. This is the internal connection for the high-side MOSFET source and low-side MOSFET drain. Due to the high-speed switching on this pin, the SW pin should be routed away from sensitive nodes.", 10 SW (power) "Switch node output. This is the internal connection for the high-side MOSFET source and low-side MOSFET drain. Due to the high-speed switching on this pin, the SW pin should be routed away from sensitive nodes.", 11 SW (power) "Switch node output. This is the internal connection for the high-side MOSFET source and low-side MOSFET drain. Due to the high-speed switching on this pin, the SW pin should be routed away from sensitive nodes.", 12 SW (power) "Switch node output. This is the internal connection for the high-side MOSFET source and low-side MOSFET drain. Due to the high-speed switching on this pin, the SW pin should be routed away from sensitive nodes.", 13 PVIN (power) "High-side N-channel internal MOSFET drain connection input. The PVIN operating voltage range is from 4.5V to 28V. Input capacitors between the PVIN pins and the power ground (PGND) are required, and these connections must be (See Datasheet)", 14 PVIN (power) "High-side N-channel internal MOSFET drain connection input. The PVIN operating voltage range is from 4.5V to 28V. Input capacitors between the PVIN pins and the power ground (PGND) are required, and these connections must be (See Datasheet)", 15 PVIN (power) "High-side N-channel internal MOSFET drain connection input. The PVIN operating voltage range is from 4.5V to 28V. Input capacitors between the PVIN pins and the power ground (PGND) are required, and these connections must be (See Datasheet)", 16 PVIN (power) "High-side N-channel internal MOSFET drain connection input. The PVIN operating voltage range is from 4.5V to 28V. Input capacitors between the PVIN pins and the power ground (PGND) are required, and these connections must be (See Datasheet)", 17 PVIN (power) "High-side N-channel internal MOSFET drain connection input. The PVIN operating voltage range is from 4.5V to 28V. Input capacitors between the PVIN pins and the power ground (PGND) are required, and these connections must be (See Datasheet)", 18 PVIN (power) "High-side N-channel internal MOSFET drain connection input. The PVIN operating voltage range is from 4.5V to 28V. Input capacitors between the PVIN pins and the power ground (PGND) are required, and these connections must be (See Datasheet)", 19 PVIN (power) "High-side N-channel internal MOSFET drain connection input. The PVIN operating voltage range is from 4.5V to 28V. Input capacitors between the PVIN pins and the power ground (PGND) are required, and these connections must be (See Datasheet)", 20 BST "Boost output. This is the bootstrapped voltage to the high-side N-channel MOSFET driver. A Schottky diode is connected between the PVDD pin and the BST pin. A boost capacitor of 0.1uF is connected between the BST pin and the (See Datasheet)", 21 PGND (power), 22 CS (in), 23 SGND (power) "Signal ground. SGND must be connected directly to the ground planes. Do not route the SGND pin to the PGND pad on the top layer (see section 5 for details).", 24 FB (in) "Feedback input. This is the input to the transconductance amplifier of the control loop. The FB pin is regulated to 0.8V. A resistor divider connecting the feedback to the output is used to adjust the desired output voltage.", 25 PG (oc) "Power good output (open drain). The PG pin is externally tied to VDD through a 10kohm pull-up resistor. A high output is asserted when VOUT >  92% of nominal.", 26 EN (in), 27 VIN (power) "Power supply voltage input. This pin requires a bypass capacitor to PGND.", 28 VDD (power), 29 SW (power) "Switch node output. This is the internal connection for the high-side MOSFET source and low-side MOSFET drain. Due to the high-speed switching on this pin, the SW pin should be routed away from sensitive nodes.", 30 PVIN (power) "High-side N-channel internal MOSFET drain connection input. The PVIN operating voltage range is from 4.5V to 28V. Input capacitors between the PVIN pins and the power ground (PGND) are required, and these connections must be (See Datasheet)", 31 PGND (power)